# Altium footprint library RF Switch.PcbLib: 1 footprints
Each footprint in its own frame and in the unit in brackets; x right, y up, seen from the top. Pads: shape width x height; smd on the part's side, far side on the other; paste and mask are expansions set on the pad; w line width, h text height; cw(c..) or ccw(c..) is an arc to the next point about the centre after c.
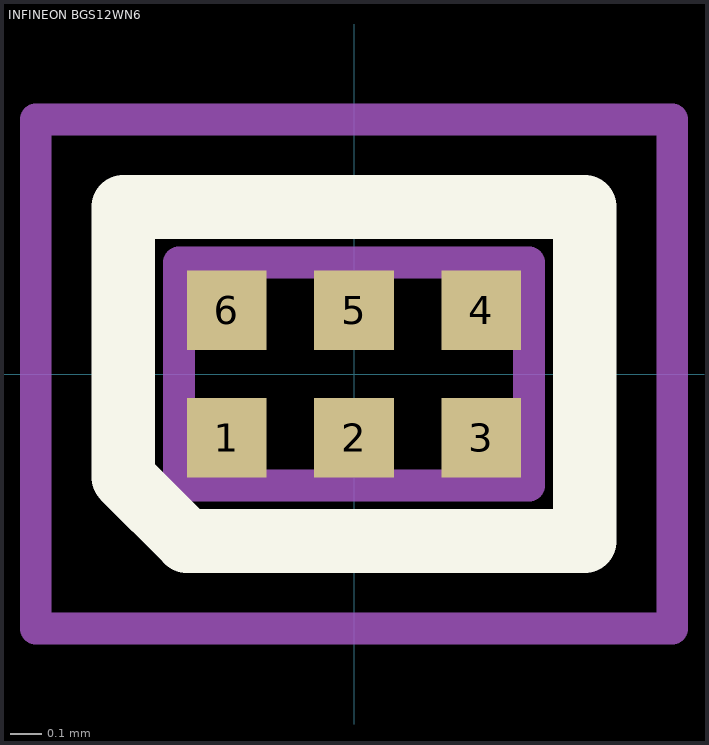
[diagram p0: the footprint, top view; thin cyan lines are the x and y axes]

## INFINEON BGS12WN6 [mm]
pads (6):
  rect 0.25x0.25 smd: 1(-0.4,-0.2) 2(0,-0.2) 3(0.4,-0.2) 4(0.4,0.2) 5(0,0.2) 6(-0.4,0.2)
Top Overlay:
  lines w0.2: -0.725,-0.325 -0.525,-0.525 0.725,-0.525 0.725,0.525 -0.725,0.525 -0.725,-0.325
Top Component Outline:
  lines w0.1: -0.55,-0.35 -0.55,0.35 0.55,0.35 0.55,-0.35 -0.55,-0.35
Top Courtyard (Mech15):
  lines w0.1: -1,-0.8 -1,0.8 1,0.8 1,-0.8 -1,-0.8
3D body "BGS12WN6E6327XTSA1.stp": height 0.4, standoff 0, extent -0.55,-0.35 0.55,0.35